# Altium footprint library SparkFun-LED.PCBLIB: 34 footprints (part 1 of 3)
Each footprint in its own frame and in the unit in brackets; x right, y up, seen from the top. Pads: shape width x height; smd on the part's side, far side on the other; paste and mask are expansions set on the pad; w line width, h text height; cw(c..) or ccw(c..) is an arc to the next point about the centre after c.
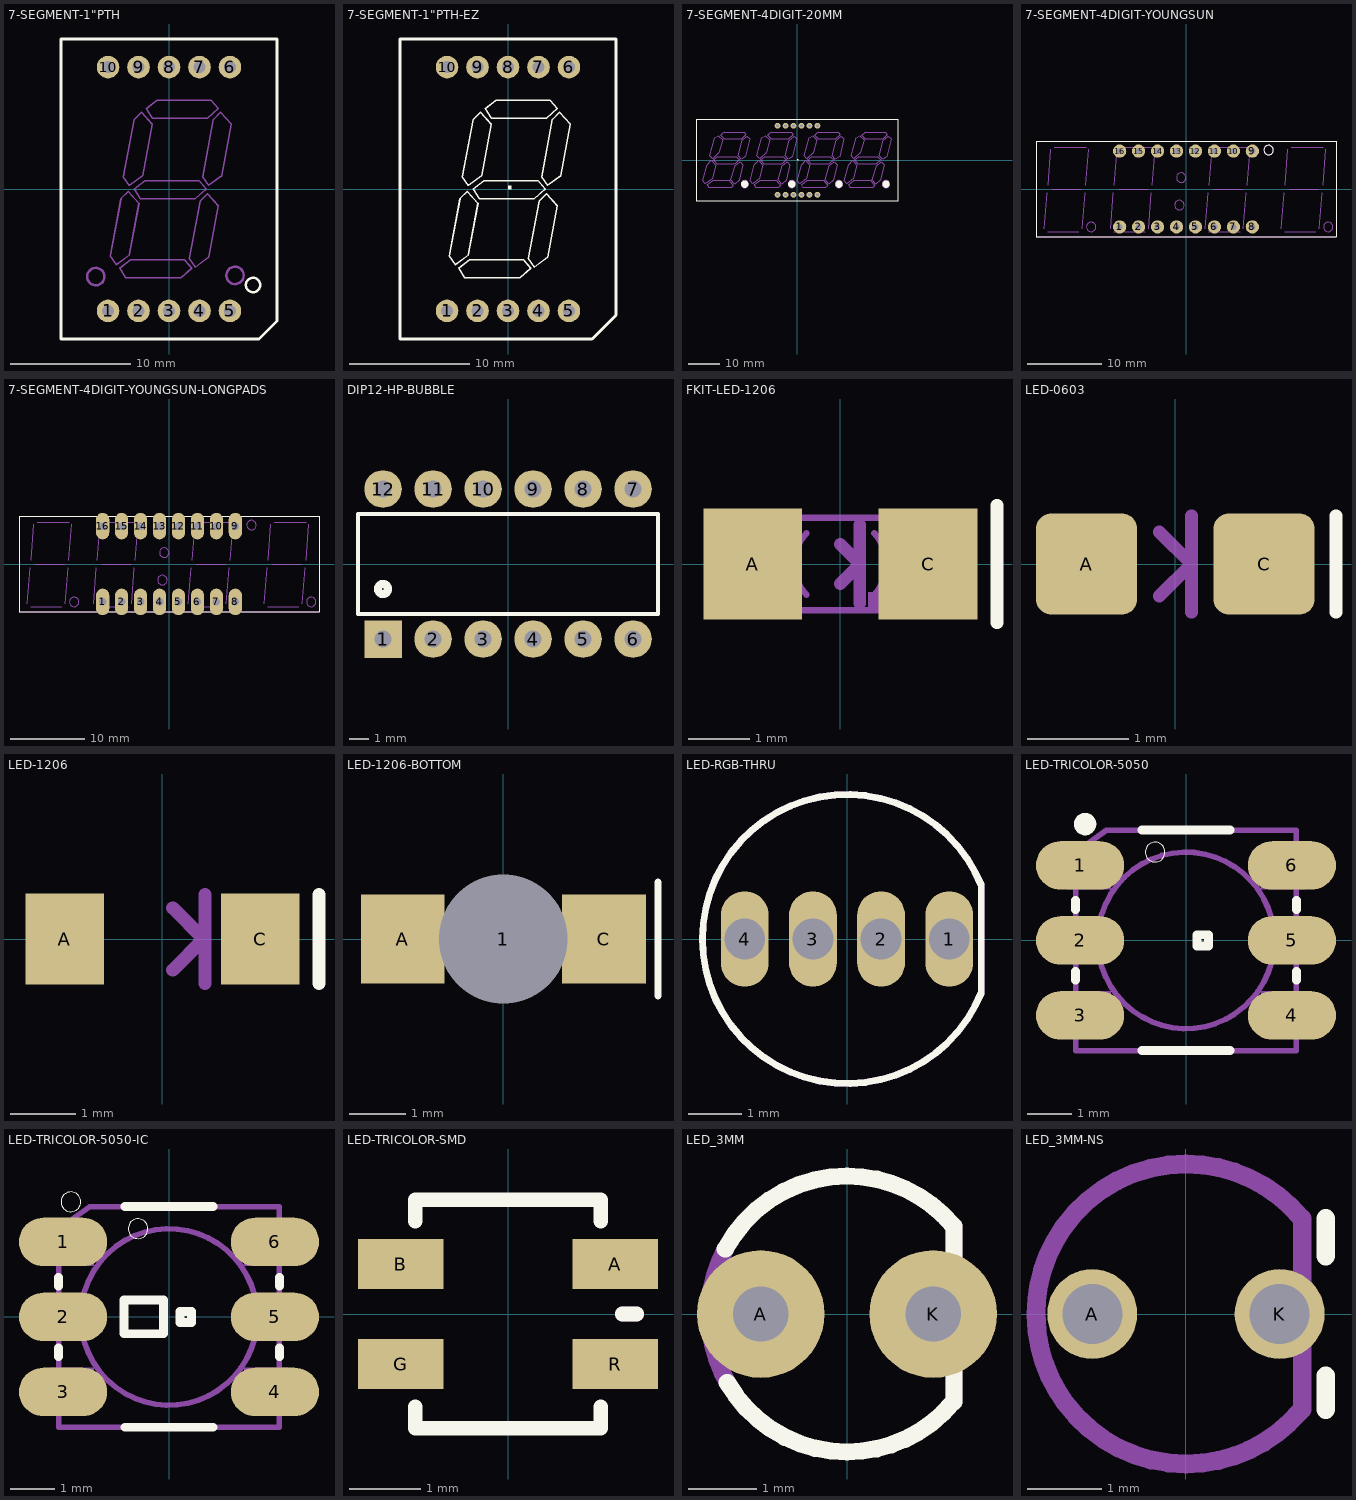
[diagram p0: the footprints below, top view; thin cyan lines are the x and y axes]

## 7-SEGMENT-1"PTH [mil]
pads (10):
  round 74 hole 39.37: 1(-200,-400) 2(-100,-400) 3(0,-400) 4(100,-400) 5(200,-400) 6(200,400) 7(100,400) 8(0,400) 9(-100,400) 10(-200,400)
Top Overlay:
  circle w8: c275.59,-314.96 r23.62
  lines w10: -354.33,-492.13 -354.33,492.13 354.33,492.13 354.33,-433.07 295.28,-492.13 -354.33,-492.13
Mechanical 16:
  circle w8: c216.54,-283.46 r28.39
  circle w8: c-240.16,-287.4 r28.39
  lines w5: -192.91,-220.47 -173.23,-248.03 -129.92,-216.54 -98.43,-47.24 -133.86,-7.87 -157.48,-31.5 -192.91,-220.47 ; -161.42,-259.84 -125.98,-232.28 51.18,-232.28 74.8,-259.84 39.37,-291.34 -141.73,-291.34 -161.42,-259.84 ; -149.61,39.37 -129.92,11.81 -86.61,43.31 -55.12,212.6 -90.55,251.97 -114.17,228.35 -149.61,39.37 ; -114.17,0 -78.74,27.56 98.43,27.56 122.05,0 86.61,-31.5 -94.49,-31.5 -114.17,0 ; -74.8,263.78 -39.37,291.34 137.8,291.34 161.42,263.78 125.98,232.28 -55.12,232.28 -74.8,263.78 ; 66.93,-228.35 86.61,-255.91 129.92,-224.41 161.42,-55.12 125.98,-15.75 102.36,-39.37 66.93,-228.35 ; 110.24,39.37 129.92,11.81 173.23,43.31 204.72,212.6 169.29,251.97 145.67,228.35 110.24,39.37

## 7-SEGMENT-1"PTH-EZ [mil]
pads (10):
  round 74 hole 39.37: 1(-200,-400) 2(-100,-400) 3(0,-400) 4(100,-400) 5(200,-400) 6(200,400) 7(100,400) 8(0,400) 9(-100,400) 10(-200,400)
Top Overlay:
  region: 0,0 10,0 10,10 0,10
  region: 0,0 10,0 10,10 0,10
  lines w5: -192.91,-220.47 -173.23,-248.03 -129.92,-216.54 -98.43,-47.24 -133.86,-7.87 -157.48,-31.5 -192.91,-220.47 ; -161.42,-259.84 -125.98,-232.28 51.18,-232.28 74.8,-259.84 39.37,-291.34 -141.73,-291.34 -161.42,-259.84 ; -149.61,39.37 -129.92,11.81 -86.61,43.31 -55.12,212.6 -90.55,251.97 -114.17,228.35 -149.61,39.37 ; -114.17,0 -78.74,27.56 98.43,27.56 122.05,0 86.61,-31.5 -94.49,-31.5 -114.17,0 ; -74.8,263.78 -39.37,291.34 137.8,291.34 161.42,263.78 125.98,232.28 -55.12,232.28 -74.8,263.78 ; 66.93,-228.35 86.61,-255.91 129.92,-224.41 161.42,-55.12 125.98,-15.75 102.36,-39.37 66.93,-228.35 ; 110.24,39.37 129.92,11.81 173.23,43.31 204.72,212.6 169.29,251.97 145.67,228.35 110.24,39.37
  lines w10: -354.33,-492.13 -354.33,492.13 354.33,492.13 354.33,-414.07 276.28,-492.13 -354.33,-492.13
Top Solder:
  region: 0,0 10,0 10,10 0,10
  region: 0,0 10,0 10,10 0,10
  region: 0,0 10,0 10,10 0,10
  region: 0,0 10,0 10,10 0,10
  region: 0,0 10,0 10,10 0,10
  region: 0,0 10,0 10,10 0,10
  region: 0,0 10,0 10,10 0,10
  region: 0,0 10,0 10,10 0,10
  region: 0,0 10,0 10,10 0,10
  region: 0,0 10,0 10,10 0,10
Bottom Solder:
  region: 0,0 10,0 10,10 0,10
  region: 0,0 10,0 10,10 0,10
  region: 0,0 10,0 10,10 0,10
  region: 0,0 10,0 10,10 0,10
  region: 0,0 10,0 10,10 0,10
  region: 0,0 10,0 10,10 0,10
  region: 0,0 10,0 10,10 0,10
  region: 0,0 10,0 10,10 0,10
  region: 0,0 10,0 10,10 0,10
  region: 0,0 10,0 10,10 0,10

## 7-SEGMENT-4DIGIT-20MM [mil]
pads (12):
  round 74 hole 35.43: 1(-250,-433) 2(-150,-433) 3(-50,-433) 4(50,-433) 5(150,-433) 6(250,-433) 7(250,433) 8(150,433) 9(50,433) 10(-50,433) 11(-150,433) 12(-250,433)
Top Overlay:
  circle w59.06: c-661.42,-299.21 r16.23
  circle w59.06: c-70.87,-299.21 r16.23
  circle w59.06: c519.69,-299.21 r16.23
  circle w59.06: c1110.24,-299.21 r16.23
  region: 0,0 10,0 10,10 0,10
  region: 0,0 10,0 10,10 0,10
  region: 0,0 10,0 10,10 0,10
  region: 0,0 10,0 10,10 0,10
  region: 0,0 10,0 10,10 0,10
  region: 0,0 10,0 10,10 0,10
  region: 0,0 10,0 10,10 0,10
  region: 0,0 10,0 10,10 0,10
  region: 0,0 10,0 10,10 0,10
  region: 0,0 10,0 10,10 0,10
  region: 0,0 10,0 10,10 0,10
  region: 0,0 10,0 10,10 0,10
  region: 0,0 10,0 10,10 0,10
  region: 0,0 10,0 10,10 0,10
  region: 0,0 10,0 10,10 0,10
  region: 0,0 10,0 10,10 0,10
  region: 0,0 10,0 10,10 0,10
  region: 0,0 10,0 10,10 0,10
  region: 0,0 10,0 10,10 0,10
  region: 0,0 10,0 10,10 0,10
  region: 0,0 10,0 10,10 0,10
  region: 0,0 10,0 10,10 0,10
  region: 0,0 10,0 10,10 0,10
  region: 0,0 10,0 10,10 0,10
  region: 0,0 10,0 10,10 0,10
  region: 0,0 10,0 10,10 0,10
  region: 0,0 10,0 10,10 0,10
  region: 0,0 10,0 10,10 0,10
  lines w10: -1259.84,-511.81 1259.84,-511.81 1259.84,511.81 -1259.84,511.81 -1259.84,-511.81
Mechanical 16:
  drawing of 172 lines, arcs and shapes, not listed

## 7-SEGMENT-4DIGIT-YOUNGSUN [mil]
pads (16):
  round 70 hole 31.5: 1(-350,-200) 2(-250,-200) 3(-150,-200) 4(-50,-200) 5(50,-200) 6(150,-200) 7(250,-200) 8(350,-200) 9(350,200) 10(250,200) 11(150,200) 12(50,200) 13(-50,200) 14(-150,200) 15(-250,200) 16(-350,200)
Top Overlay:
  circle w5: c435.63,205.32 r25
  lines w5: -790.94,-251.97 -790.94,251.97 790.94,251.97 790.94,-251.97 -790.94,-251.97
Mechanical 16:
  circle w5: c-500,-200 r25
  circle w5: c-150,-200 r25
  circle w5: c350,-200 r25
  circle w5: c750,-200 r25
  circle w5: c-25,60 r25
  circle w5: c-35,-85 r25
  circle w5: c435,205 r25
  lines w5: -750,-210 -735,-20 ; -730,-225 -565,-225 ; -730,20 -715,210 ; -705,0 -550,0 ; -695,220 -525,220 ; -550,-210 -535,-20 ; -530,20 -515,210 ; -400,-210 -385,-20 ; -380,-225 -215,-225 ; -380,20 -365,210 ; -355,0 -200,0 ; -345,220 -175,220 ; -200,-210 -185,-20 ; -180,20 -165,210 ; 100,-210 115,-20 ; 120,-225 285,-225 ; 120,20 135,210 ; 145,0 300,0 ; 155,220 325,220 ; 300,-210 315,-20 ; 320,20 335,210 ; 500,-210 515,-20 ; 520,-225 685,-225 ; 520,20 535,210 ; 545,0 700,0 ; 555,220 725,220 ; 700,-210 715,-20 ; 720,20 735,210 ; -790.94,-251.97 790.94,-251.97 790.94,251.97 -790.94,251.97 -790.94,-251.97

## 7-SEGMENT-4DIGIT-YOUNGSUN-LONGPADS [mil]
pads (16):
  oval 70x140 hole 40: 1(-350,-200) 2(-250,-200) 3(-150,-200) 4(-50,-200) 5(50,-200) 6(150,-200) 7(250,-200) 8(350,-200) 9(350,200) 10(250,200) 11(150,200) 12(50,200) 13(-50,200) 14(-150,200) 15(-250,200) 16(-350,200)
Top Overlay:
  lines w5: -790.94,-251.97 -790.94,251.97 790.94,251.97 790.94,-251.97 -790.94,-251.97
Mechanical 16:
  circle w5: c-500,-200 r25
  circle w5: c-150,-200 r25
  circle w5: c350,-200 r25
  circle w5: c750,-200 r25
  circle w5: c-25,60 r25
  circle w5: c-35,-85 r25
  circle w5: c435,205 r25
  lines w5: -750,-210 -735,-20 ; -730,-225 -565,-225 ; -730,20 -715,210 ; -705,0 -550,0 ; -695,220 -525,220 ; -550,-210 -535,-20 ; -530,20 -515,210 ; -400,-210 -385,-20 ; -380,-225 -215,-225 ; -380,20 -365,210 ; -355,0 -200,0 ; -345,220 -175,220 ; -200,-210 -185,-20 ; -180,20 -165,210 ; 100,-210 115,-20 ; 120,-225 285,-225 ; 120,20 135,210 ; 145,0 300,0 ; 155,220 325,220 ; 300,-210 315,-20 ; 320,20 335,210 ; 500,-210 515,-20 ; 520,-225 685,-225 ; 520,20 535,210 ; 545,0 700,0 ; 555,220 725,220 ; 700,-210 715,-20 ; 720,20 735,210 ; -790.94,-251.97 790.94,-251.97 790.94,251.97 -790.94,251.97 -790.94,-251.97

## DIP12-HP-BUBBLE [mil]
pads (12):
  rect 75x75 hole 34: 1(-250,-150)
  round 75 hole 34: 2(-150,-150) 3(-50,-150) 4(50,-150) 5(150,-150) 6(250,-150) 7(250,150) 8(150,150) 9(50,150) 10(-50,150) 11(-150,150) 12(-250,150)
Top Overlay:
  circle w16: c-250,-50 r10
  lines w8: -300,-100 -300,100 300,100 300,-100 -300,-100

## FKIT-LED-1206 [mil]
pads (2):
  rect 62.99x70.98 smd: A(-55.98,0) C(55.98,0)
Top Overlay:
  lines w8: 100,-37.5 100,37.5
Mechanical 16:
  rectangle: 17.72,-27.56 31.5,-17.72
  rectangle: 31.5,-27.56 35.43,19.69
  rectangle: 31.5,21.65 35.43,27.56
  rectangle: -35.43,-27.56 -31.5,19.69
  rectangle: -35.43,21.65 -31.5,27.56
  lines w4: -21.65,-19.69 cw(c0.01,0) -21.65,19.69 ; 21.65,-19.69 ccw(c-0.01,0) 21.65,19.69 ; -61.02,-29.53 61.02,-29.53 61.02,29.53 -61.02,29.53 -61.02,-29.53
  lines w8: 0,-12.5 12.5,0 ; 0,12.5 12.5,0 ; 12.5,-25 12.5,0 ; 12.5,25 12.5,0

## LED-0603 [mm]
pads (2):
  rrect30% 1x1 smd: A(-0.877,0) C(0.877,0)
Top Overlay:
  lines w0.127: 1.587,-0.476 1.587,0.476
Mechanical 16:
  lines w0.127: -0.159,-0.318 0.159,0 ; -0.159,0.318 0.159,0 ; 0.159,-0.476 0.159,0 ; 0.159,0.476 0.159,0

## LED-1206 [mil]
pads (2):
  rect 47.24x55.12 smd: A(-59.06,0) C(59.06,0)
Top Overlay:
  lines w8: 94.49,-26.87 94.49,26.87
Mechanical 16:
  lines w8: 6.25,-18.75 25,0 6.25,18.75 ; 25.74,-26.87 25.74,26.87

## LED-1206-BOTTOM [mil]
pads (3):
  round 90.55 hole 90.55: 1(0,0)
  rect 59.06x62.99 smd: A(-70.87,0) C(70.87,0)
Top Overlay:
  lines w5: 109,-40 109,40
Bottom Overlay:
  lines w5: 109,-40 109,40
Mechanical 14:
  lines w5: -94.49,0 -62.99,0 ; -78.74,-15.75 -78.74,15.75 ; -50,0 -15,0 ; 10,-25 10,0 ; 10,25 10,0 ; 50,0 10,0 ; 62.99,0 94.49,0 ; -15,0 -15,25 10,0 ; -15,0 -15,-25 10,0
Mechanical 16:
  rectangle: -29.53,-29.53 29.53,29.53
  region: 0,0 10,0 10,10 0,10
  region: 0,0 10,0 10,10 0,10

## LED-RGB-THRU [mil]
pads (4):
  oval 35x70 hole 30: 1(75,0) 2(25,0) 3(-25,0) 4(-75,0)
Top Overlay:
  lines w5: 98.43,-39.37 98.43,39.37 ccw(c0.01,0) 98.43,-39.37
Bottom Overlay:
  lines w5: 98.43,-39.37 98.43,39.37
Mechanical 16:
  lines w5: 98.43,-39.37 98.43,39.37 ccw(c0.01,0) 98.43,-39.37

## LED-TRICOLOR-5050 [mm]
pads (6):
  rrect100% 2x1.1 smd: 1(-2.4,1.7) 2(-2.4,0) 3(-2.4,-1.7) 4(2.4,-1.7) 5(2.4,0) 6(2.4,1.7)
Top Overlay:
  circle w0: c-0.7,2 r0.224
  circle w0.254: c-2.288,2.635 r0.127
  lines w0.203: -2.5,-0.9 -2.5,-0.7 ; -2.5,0.7 -2.5,0.9 ; -1,-2.5 1,-2.5 ; -1,2.5 1,2.5 ; 2.5,-0.9 2.5,-0.7 ; 2.5,0.7 2.5,0.9 ; 0.254,-0.127 0.254,0.127 0.508,0.127 0.508,-0.127 0.254,-0.127
Mechanical 16:
  circle w0.127: c0,0 r2
  rectangle: 1.7,-0.45 2.7,0.45
  rectangle: 1.7,1.15 2.7,2.05
  rectangle: 1.7,-2.05 2.7,-1.15
  region: -1.7,2.05 -2.7,2.05 -2.7,1.15 -1.7,1.15
  region: -1.7,0.45 -2.7,0.45 -2.7,-0.45 -1.7,-0.45
  region: -1.7,-1.15 -2.7,-1.15 -2.7,-2.05 -1.7,-2.05
  lines w0.127: -2.5,-2.5 -2.5,2 -1.8,2.5 2.5,2.5 2.5,-2.5 -2.5,-2.5

## LED-TRICOLOR-5050-IC [mm]
pads (6):
  rrect100% 2x1.1 smd: 1(-2.4,1.7) 2(-2.4,0) 3(-2.4,-1.7) 4(2.4,-1.7) 5(2.4,0) 6(2.4,1.7)
Top Overlay:
  circle w0: c-0.7,2 r0.224
  circle w0: c-2.224,2.61 r0.224
  lines w0.203: -2.5,-0.9 -2.5,-0.7 ; -2.5,0.7 -2.5,0.9 ; -1,-2.5 1,-2.5 ; -1,2.5 1,2.5 ; 2.5,-0.9 2.5,-0.7 ; 2.5,0.7 2.5,0.9 ; -1.016,-0.381 -1.016,0.381 -0.127,0.381 -0.127,-0.381 -1.016,-0.381 ; 0.254,-0.127 0.254,0.127 0.508,0.127 0.508,-0.127 0.254,-0.127
Mechanical 16:
  circle w0.127: c0,0 r2
  rectangle: 1.7,-0.45 2.7,0.45
  rectangle: 1.7,1.15 2.7,2.05
  rectangle: 1.7,-2.05 2.7,-1.15
  region: -1.7,2.05 -2.7,2.05 -2.7,1.15 -1.7,1.15
  region: -1.7,0.45 -2.7,0.45 -2.7,-0.45 -1.7,-0.45
  region: -1.7,-1.15 -2.7,-1.15 -2.7,-2.05 -1.7,-2.05
  lines w0.127: -2.5,-2.5 -2.5,2 -1.8,2.5 2.5,2.5 2.5,-2.5 -2.5,-2.5

## LED-TRICOLOR-SMD [mil]
pads (4):
  rect 47.24x27.56 smd: A(59.06,27.56) B(-59.06,27.56) G(-59.06,-27.56) R(59.06,-27.56)
Top Overlay:
  lines w8: -51.18,-51.18 -51.18,-62.99 51.18,-62.99 51.18,-51.18 ; -51.18,51.18 -51.18,62.99 51.18,62.99 51.18,51.18 ; 62.99,0 70.87,0
Mechanical 16:
  lines w8: 62.99,0 70.87,0

## LED_3MM [mil]
pads (2):
  round 74 hole 32: A(-50,0) K(50,0)
Top Overlay:
  lines w10: -70.59,37.65 cw(c0,0) 0,80 cw(c0.01,0) 61.46,51.22 ; -69.46,-39.69 ccw(c0,0) 0,-80 ccw(c0,0) 61.07,-51.68 ; 62,-51 62,-33 ; 62,31 62,51
Bottom Overlay:
  lines w10: -70.59,37.65 cw(c0,0) 0,80 cw(c0.01,0) 61.46,51.22 ; -69.46,-39.69 ccw(c0,0) 0,-80 ccw(c0,0) 61.07,-51.68 ; 62,-51 62,-33 ; 62,31 62,51
Mechanical 16:
  lines w10: -70.44,37.93 ccw(c0,0.01) -80,0 ccw(c0,0) -68.13,-41.93 ; 62,-50 62,50

## LED_3MM-NS [mil]
pads (2):
  round 48 hole 32: A(-50,0) K(50,0)
Top Overlay:
  lines w10: 74.5,-51 74.5,-33 ; 74.5,31 74.5,51
Mechanical 16:
  lines w10: -70.59,37.65 cw(c0,0) 0,80 cw(c0.01,0) 61.46,51.22 ; -70.44,37.93 ccw(c0,0.01) -80,0 ccw(c0,0) -68.13,-41.93 ; -69.46,-39.69 ccw(c0,0) 0,-80 ccw(c0,0) 61.07,-51.68 ; 62,-51 62,-33 ; 62,-50 62,50 ; 62,31 62,51